# EAGLE library part TEENSYDUALCANBUS (library dualcanbusteensy)
Fusion Dual-can adapter for teensy 3.6 Note: can not be used for PCB design, as the pads are not placed according to physical layout
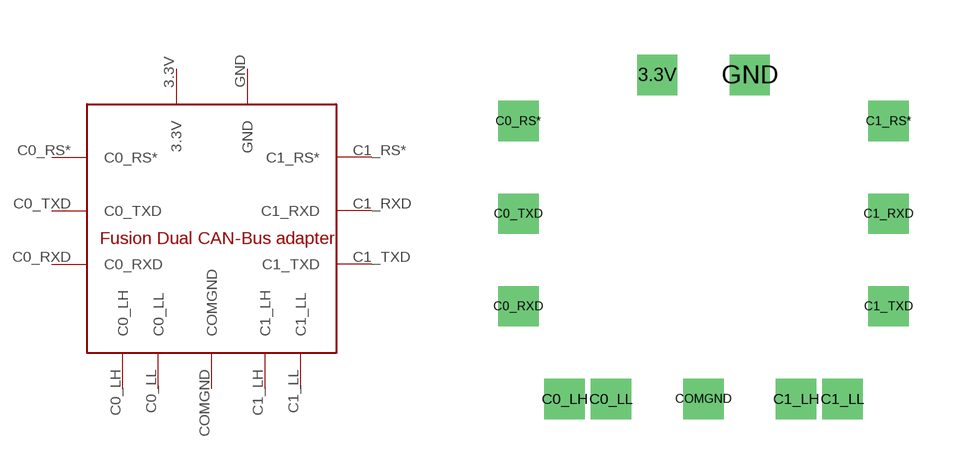
[diagram p0: symbol with the pads of ORKERIKKE; footprint ORKERIKKE]

Designator prefix -

## TEENSYDUALCANBUS  [ORKERIKKE]
3.3V  3.3V
C0_LH  C0_LH
C0_LL  C0_LL
C0_RS*  C0_RS*
C0_RXD  C0_RXD
C0_TXD  C0_TXD
C1_LH  C1_LH
C1_LL  C1_LL
C1_RS*  C1_RS*
C1_RXD  C1_RXD
C1_TXD  C1_TXD
COMGND  COMGND
GND  GND

## Footprint ORKERIKKE (pad centres in mm)
KAN IKKE BRUKES OM DU SKAL LAGE KRETSKORT, DETTE ER KUN EN PLACEHOLDER SÅ MAN KAN BRUKE DET I EAGLE SCHEMATIC!!!!
drill 0.6 square: 3.3V -1.27,3.81; C0_LH -3.81,-5.08; C0_LL -2.54,-5.08; C0_RS* -5.08,2.54; C0_RXD -5.08,-2.54; C0_TXD -5.08,0; C1_LH 2.54,-5.08; C1_LL 3.81,-5.08; C1_RS* 5.08,2.54; C1_RXD 5.08,0; C1_TXD 5.08,-2.54; COMGND 0,-5.08; GND 1.27,3.81